# EAGLE library part ADC0820CCWM (library nw2s)
A/D converters
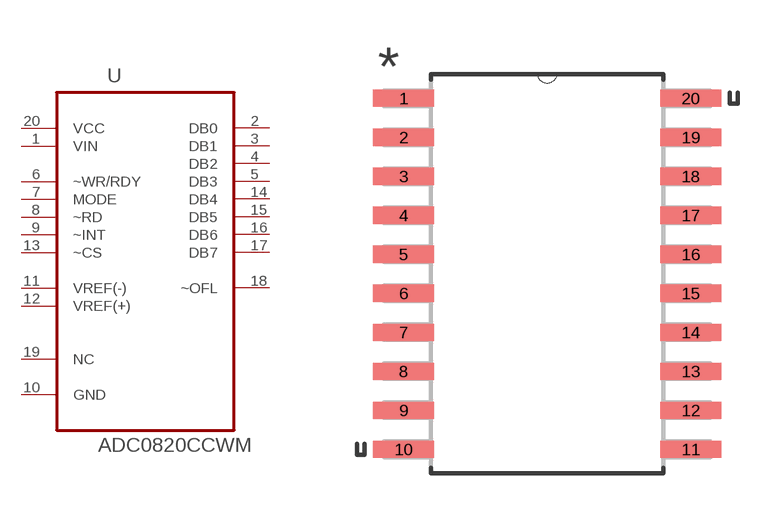
[diagram p11: symbol with the pads of SOIC127P1032X264-20N; footprint SOIC127P1032X264-20N]

Designator prefix U

## ADC0820CCWM (MPN: ADC0820CCWM; OC_FARNELL: 1564768; OC_NEWARK: 07B4637; PACKAGE: SOIC-20; SUPPLIER: NationalSemiconductor)  [SOIC127P1032X264-20N]
1  VIN  pwr
2  DB0  out
3  DB1  out
4  DB2  out
5  DB3  out
6  ~WR/RDY  in
7  MODE  in
8  ~RD  in
9  ~INT  in
10  GND  pas
11  VREF(-)  in
12  VREF(+)  in
13  ~CS  in
14  DB4  out
15  DB5  out
16  DB6  out
17  DB7  out
18  ~OFL  out
19  NC  nc
20  VCC  pwr

## Footprint SOIC127P1032X264-20N (pad centres in mm)
smd 1.981 x 0.559: 1 -4.674,5.715; 2 -4.674,4.445; 3 -4.674,3.175; 4 -4.674,1.905; 5 -4.674,0.635; 6 -4.674,-0.635; 7 -4.674,-1.905; 8 -4.674,-3.175; 9 -4.674,-4.445; 10 -4.674,-5.715; 11 4.674,-5.715; 12 4.674,-4.445; 13 4.674,-3.175; 14 4.674,-1.905; 15 4.674,-0.635; 16 4.674,0.635; 17 4.674,1.905; 18 4.674,3.175; 19 4.674,4.445; 20 4.674,5.715